# Altium schematic symbol library TPS2051BDBVR.SchLib: 2 symbols
Pins are listed as number, name and electrical type; pins without a type are passive.

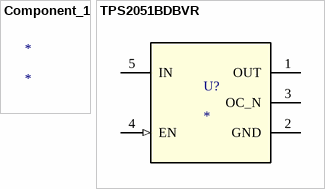
[diagram p0: symbols Component_1 to TPS2051BDBVR]

## Component_1
designator *

## TPS2051BDBVR
designator U?
No Description Available; Mfr_Name: Texas Instruments; PartNumber: TPS2051BDBVR; Alternate_PartNumber: TPS2051BDBVT; CompType: IC; TYPE: TYPE; RefDes: RefDes; Application_BuildNumber: *; PackageReference: DBV0005A; MountType: SMT; RoHS: Y; Manufacturer: Texas Instruments
footprint DBV0005A_N
pins: 1 OUT (power), 2 GND (power), 3 OC_N (oc), 4 EN (in), 5 IN (power)